# EAGLE library part 50238-050 (library con-aces-50238-series)
ACES CONNECTORS 50238 SERIES ACES Connecors 50238 <https://www.acesconn.com/tw/series/50238-xxxxx-xxx/1290>
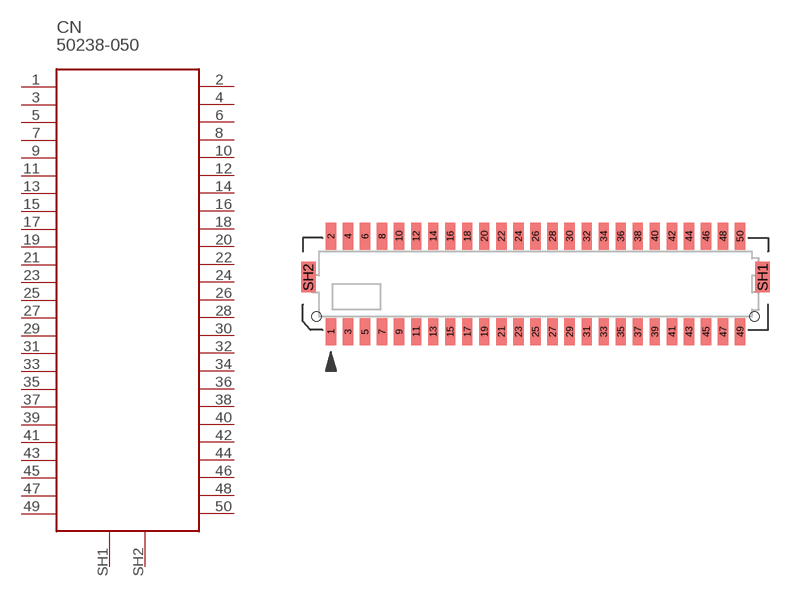
[diagram p12: symbol with the pads of 50238-050; footprint 50238-050]

Designator prefix CN

## 50238-050  [50238-050]
1  1
2  2
3  3
4  4
5  5
6  6
7  7
8  8
9  9
10  10
11  11
12  12
13  13
14  14
15  15
16  16
17  17
18  18
19  19
20  20
21  21
22  22
23  23
24  24
25  25
26  26
27  27
28  28
29  29
30  30
31  31
32  32
33  33
34  34
35  35
36  36
37  37
38  38
39  39
40  40
41  41
42  42
43  43
44  44
45  45
46  46
47  47
48  48
49  49
50  50
SH1  SH1
SH2  SH2

## Footprint 50238-050 (pad centres in mm)
smd 0.6 x 1.6: 1 -12,-2.8; 2 -12,2.8; 3 -11,-2.8; 4 -11,2.8; 5 -10,-2.8; 6 -10,2.8; 7 -9,-2.8; 8 -9,2.8; 9 -8,-2.8; 10 -8,2.8; 11 -7,-2.8; 12 -7,2.8; 13 -6,-2.8; 14 -6,2.8; 15 -5,-2.8; 16 -5,2.8; 17 -4,-2.8; 18 -4,2.8; 19 -3,-2.8; 20 -3,2.8; 21 -2,-2.8; 22 -2,2.8; 23 -1,-2.8; 24 -1,2.8; 25 0,-2.8; 26 0,2.8; 27 1,-2.8; 28 1,2.8; 29 2,-2.8; 30 2,2.8; 31 3,-2.8; 32 3,2.8; 33 4,-2.8; 34 4,2.8; 35 5,-2.8; 36 5,2.8; 37 6,-2.8; 38 6,2.8; 39 7,-2.8; 40 7,2.8; 41 8,-2.8; 42 8,2.8; 43 9,-2.8; 44 9,2.8; 45 10,-2.8; 46 10,2.8; 47 11,-2.8; 48 11,2.8; 49 12,-2.8; 50 12,2.8
smd 0.85 x 1.8: SH1 13.325,0.4; SH2 -13.325,0.4
hole 0.55 at -12.85,-1.9
hole 0.55 at 12.85,-1.9